# EAGLE library part VENUS_GPS (library OpenSpace)
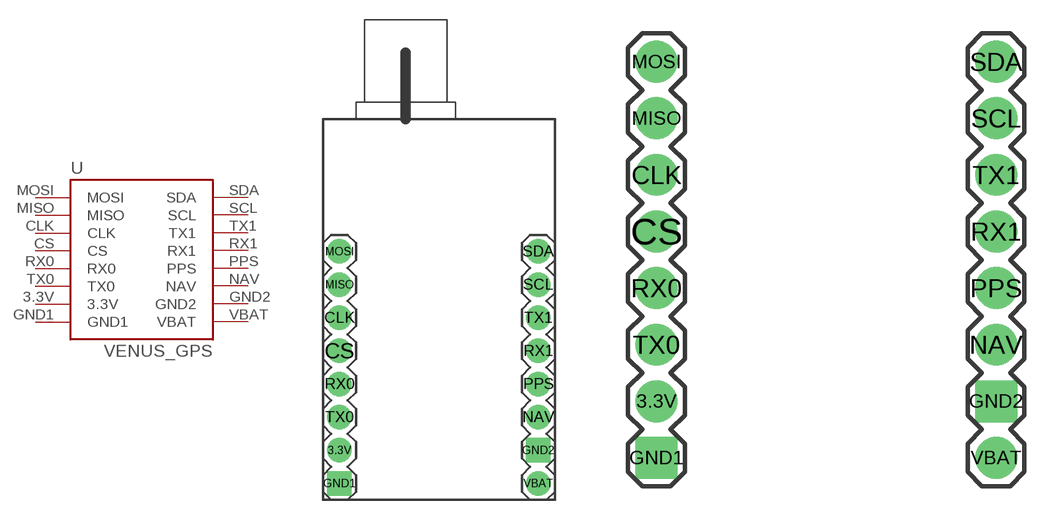
[diagram p5: symbol with the pads of VENUS_GPS; footprints VENUS_GPS, VENUS_GPS-NOSILK]

Designator prefix -

## VENUS_GPS  [VENUS_GPS]
3.3V  3.3V
CLK  CLK
CS  CS
GND1  GND1
GND2  GND2
MISO  MISO
MOSI  MOSI
NAV  NAV
PPS  PPS
RX0  RX0
RX1  RX1
SCL  SCL
SDA  SDA
TX0  TX0
TX1  TX1
VBAT  VBAT

## VENUS_GPS-NOSILK  [VENUS_GPS-NOSILK]
Pads as for VENUS_GPS

## Footprint VENUS_GPS (pad centres in mm)
drill 1.016 pad 1.88: 3.3V -7.62,-6.35; CLK -7.62,3.81; CS -7.62,1.27; MISO -7.62,6.35; MOSI -7.62,8.89; NAV 7.62,-3.81; PPS 7.62,-1.27; RX0 -7.62,-1.27; RX1 7.62,1.27; SCL 7.62,6.35; SDA 7.62,8.89; TX0 -7.62,-3.81; TX1 7.62,3.81; VBAT 7.62,-8.89
drill 1.016 pad 1.88 square: GND1 -7.62,-8.89; GND2 7.62,-6.35

## Footprint VENUS_GPS-NOSILK (pad centres in mm)
drill 1.016 pad 1.88: 3.3V -7.62,-6.35; CLK -7.62,3.81; CS -7.62,1.27; MISO -7.62,6.35; MOSI -7.62,8.89; NAV 7.62,-3.81; PPS 7.62,-1.27; RX0 -7.62,-1.27; RX1 7.62,1.27; SCL 7.62,6.35; SDA 7.62,8.89; TX0 -7.62,-3.81; TX1 7.62,3.81; VBAT 7.62,-8.89
drill 1.016 pad 1.88 square: GND1 -7.62,-8.89; GND2 7.62,-6.35